# EAGLE library part ERF8-025-XX-X-D-RA (library con-samtec-er8)
ERF8 Series - Female Right Angle Edge Mount
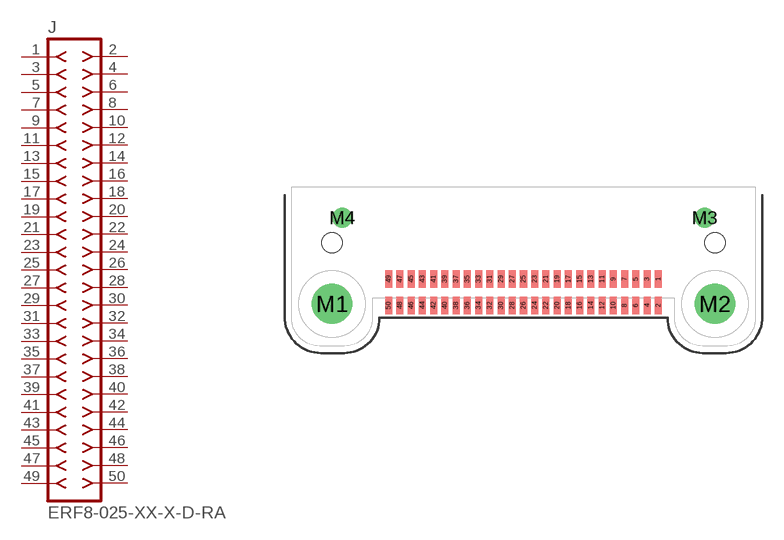
[diagram p34: symbol with the pads of ERF8-025-XX-X-D-RA; footprint ERF8-025-XX-X-D-RA]

Designator prefix J

## ERF8-025-XX-X-D-RA  [ERF8-025-XX-X-D-RA]
1  1  pas
2  2  pas
3  3  pas
4  4  pas
5  5  pas
6  6  pas
7  7  pas
8  8  pas
9  9  pas
10  10  pas
11  11  pas
12  12  pas
13  13  pas
14  14  pas
15  15  pas
16  16  pas
17  17  pas
18  18  pas
19  19  pas
20  20  pas
21  21  pas
22  22  pas
23  23  pas
24  24  pas
25  25  pas
26  26  pas
27  27  pas
28  28  pas
29  29  pas
30  30  pas
31  31  pas
32  32  pas
33  33  pas
34  34  pas
35  35  pas
36  36  pas
37  37  pas
38  38  pas
39  39  pas
40  40  pas
41  41  pas
42  42  pas
43  43  pas
44  44  pas
45  45  pas
46  46  pas
47  47  pas
48  48  pas
49  49  pas
50  50  pas

## Footprint ERF8-025-XX-X-D-RA (pad centres in mm)
0.8mm Edge Rate Terminal Assembly FEMALE, Double Row Right Angle, 25 Position
smd 0.5 x 1.25: 1 9.6,0.94; 2 9.6,-0.94; 3 8.8,0.94; 4 8.8,-0.94; 5 8,0.94; 6 8,-0.94; 7 7.2,0.94; 8 7.2,-0.94; 9 6.4,0.94; 10 6.4,-0.94; 11 5.6,0.94; 12 5.6,-0.94; 13 4.8,0.94; 14 4.8,-0.94; 15 4,0.94; 16 4,-0.94; 17 3.2,0.94; 18 3.2,-0.94; 19 2.4,0.94; 20 2.4,-0.94; 21 1.6,0.94; 22 1.6,-0.94; 23 0.8,0.94; 24 0.8,-0.94; 25 0,0.94; 26 0,-0.94; 27 -0.8,0.94; 28 -0.8,-0.94; 29 -1.6,0.94; 30 -1.6,-0.94; 31 -2.4,0.94; 32 -2.4,-0.94; 33 -3.2,0.94; 34 -3.2,-0.94; 35 -4,0.94; 36 -4,-0.94; 37 -4.8,0.94; 38 -4.8,-0.94; 39 -5.6,0.94; 40 -5.6,-0.94; 41 -6.4,0.94; 42 -6.4,-0.94; 43 -7.2,0.94; 44 -7.2,-0.94; 45 -8,0.94; 46 -8,-0.94; 47 -8.8,0.94; 48 -8.8,-0.94; 49 -9.6,0.94; 50 -9.6,-0.94
drill 1.905 pad 2.41 round: M1 -13.625,-0.835; M2 13.625,-0.835
drill 0.63 pad 1.4 round: M3 12.9,5.295; M4 -12.9,5.295
hole 1.45 at -13.625,3.515
hole 1.45 at 13.625,3.515